# Altium integrated library TI_Logic_Flip-Flop,Latch,Register.IntLib: 2598 symbols (part 21 of 122)
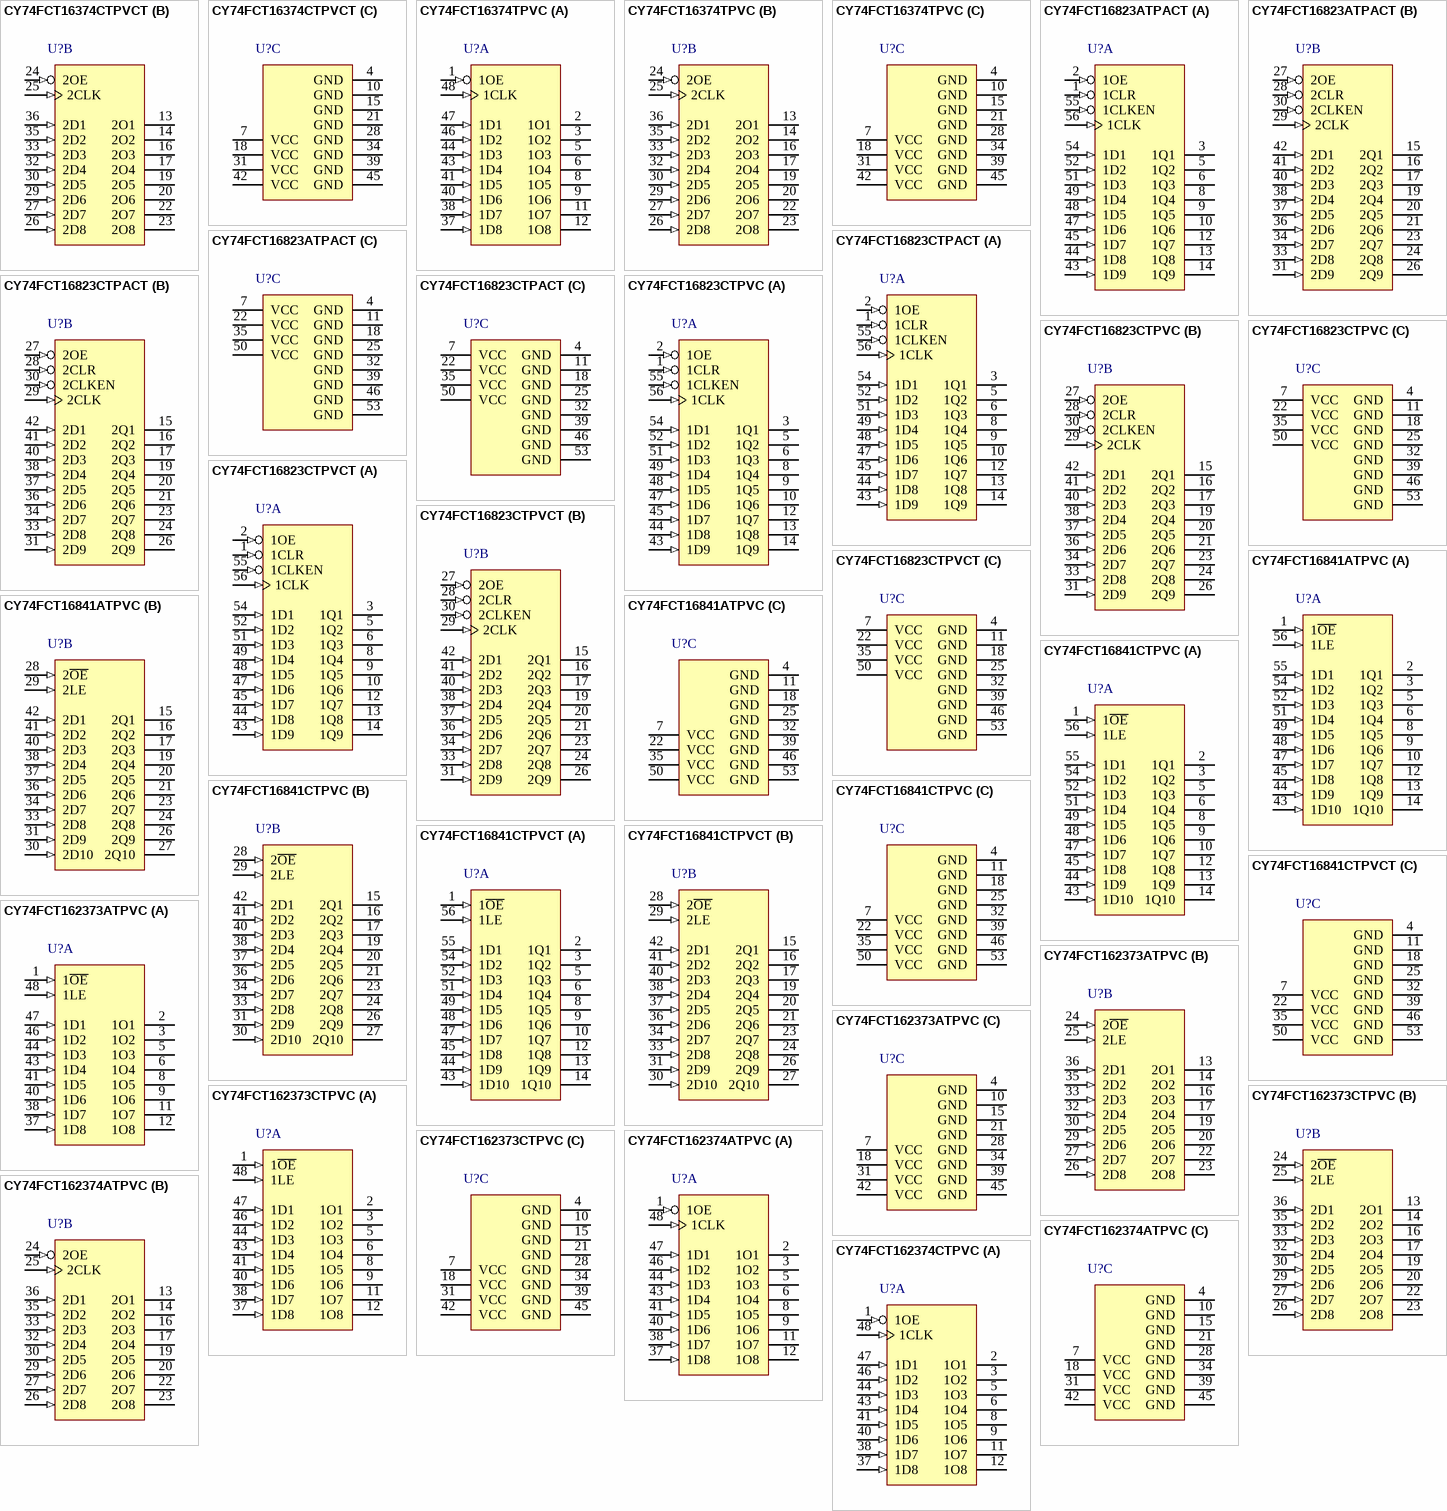
[diagram p159: symbols CY74FCT16374CTPVCT to CY74FCT162374CTPVC]

## CY74FCT16823CTPACT
designator U?
18-Bit D-Type Flip-Flops with 3-State Outputs, DGG0056A, LARGE T&R; Generic Part Number: CY74FCT16823T; Manufacturer: Texas Instruments; PartNumber: CY74FCT16823CTPACT; VCC(Min)(V): 4.5; VCC(Max)(V): 5.5; Output Type: CMOS; ICC @ Nom Voltage(Max)(mA): 0.5; Input Type: TTL; Bits(#): 18; F @ Nom Voltage(Max)(Mhz): 70; Rating: Catalog; Technology Family: FCT; Voltage(Nom)(V): 5; Schmitt Trigger: No; Output Drive (IOL/IOH)(Max)(mA): 64/-32; tpd @ Nom Voltage(Max)(ns): 12.5; DatasheetVersion: SCCS062B; PackageReference: DGG0056A; Supplier 1: Digi-Key; Supplier Part Number 1: CY74FCT16823CTPACT-ND; Supplier 2: Mouser; Supplier Part Number 2: 595-74FCT16823CTPACT; Operating Temperature Range(C): -40 to 85; Code_JEDEC: MO-153; ComponentLink1Description: Manufacturer URL; ComponentLink1URL: http://www.ti.com/; ComponentLink2Description: Datasheet; ComponentLink2URL: http://www.ti.com/lit/ds/symlink/cy74fct16823t.pdf; ComponentLink3Description: Package Specification; ComponentLink3URL: http://www.ti.com/lit/ml/mtss003d/mtss003d.pdf
footprint DGG0056A_N (TSSOP, 56-Leads, Body 14.1x6.2mm, Pitch 0.5mm, IPC Medium Density)
footprint DGG0056A_M (TSSOP, 56-Leads, Body 14.1x6.2mm, Pitch 0.5mm, IPC Low Density)
footprint DGG0056A_L (TSSOP, 56-Leads, Body 14.1x6.2mm, Pitch 0.5mm, IPC High Density)
part A pins: 1 1CLR (in) "Asynchronous Clear Inputs (Active LOW)", 2 1OE (in) "Output Enable Inputs (Active LOW)", 3 1Q1 (hiz) "Three-State Outputs", 5 1Q2 (hiz) "Three-State Outputs", 6 1Q3 (hiz) "Three-State Outputs", 8 1Q4 (hiz) "Three-State Outputs", 9 1Q5 (hiz) "Three-State Outputs", 10 1Q6 (hiz) "Three-State Outputs", 12 1Q7 (hiz) "Three-State Outputs", 13 1Q8 (hiz) "Three-State Outputs", 14 1Q9 (hiz) "Three-State Outputs", 43 1D9 (in) "Data Inputs", 44 1D8 (in) "Data Inputs", 45 1D7 (in) "Data Inputs", 47 1D6 (in) "Data Inputs", 48 1D5 (in) "Data Inputs", 49 1D4 (in) "Data Inputs", 51 1D3 (in) "Data Inputs", 52 1D2 (in) "Data Inputs", 54 1D1 (in) "Data Inputs", 55 1CLKEN (in) "Clock Enable Inputs (Active LOW)", 56 1CLK (in) "Clock Inputs"
part B pins: 15 2Q1 (hiz) "Three-State Outputs", 16 2Q2 (hiz) "Three-State Outputs", 17 2Q3 (hiz) "Three-State Outputs", 19 2Q4 (hiz) "Three-State Outputs", 20 2Q5 (hiz) "Three-State Outputs", 21 2Q6 (hiz) "Three-State Outputs", 23 2Q7 (hiz) "Three-State Outputs", 24 2Q8 (hiz) "Three-State Outputs", 26 2Q9 (hiz) "Three-State Outputs", 27 2OE (in) "Output Enable Inputs (Active LOW)", 28 2CLR (in) "Asynchronous Clear Inputs (Active LOW)", 29 2CLK (in) "Clock Inputs", 30 2CLKEN (in) "Clock Enable Inputs (Active LOW)", 31 2D9 (in) "Data Inputs", 33 2D8 (in) "Data Inputs", 34 2D7 (in) "Data Inputs", 36 2D6 (in) "Data Inputs", 37 2D5 (in) "Data Inputs", 38 2D4 (in) "Data Inputs", 40 2D3 (in) "Data Inputs", 41 2D2 (in) "Data Inputs", 42 2D1 (in) "Data Inputs"
part C pins: 4 GND (power), 7 VCC (power), 11 GND (power), 18 GND (power), 22 VCC (power), 25 GND (power), 32 GND (power), 35 VCC (power), 39 GND (power), 46 GND (power), 50 VCC (power), 53 GND (power)

## CY74FCT16823CTPVC
designator U?
18-Bit D-Type Flip-Flops with 3-State Outputs, DL0056A, TUBE; Generic Part Number: CY74FCT16823T; Manufacturer: Texas Instruments; PartNumber: CY74FCT16823CTPVC; VCC(Min)(V): 4.5; VCC(Max)(V): 5.5; Output Type: CMOS; ICC @ Nom Voltage(Max)(mA): 0.5; Input Type: TTL; Bits(#): 18; F @ Nom Voltage(Max)(Mhz): 70; Rating: Catalog; Technology Family: FCT; Voltage(Nom)(V): 5; Schmitt Trigger: No; Output Drive (IOL/IOH)(Max)(mA): 64/-32; tpd @ Nom Voltage(Max)(ns): 12.5; DatasheetVersion: SCCS062B; PackageReference: DL0056A; Supplier 1: Digi-Key; Supplier Part Number 1: 296-33206-5-ND; Supplier 2: Mouser; Supplier Part Number 2: 595-74FCT16823CTPVC; Operating Temperature Range(C): -40 to 85; Code_JEDEC: MO-118; ComponentLink1Description: Manufacturer URL; ComponentLink1URL: http://www.ti.com/; ComponentLink2Description: Datasheet; ComponentLink2URL: http://www.ti.com/lit/ds/symlink/cy74fct16823t.pdf; ComponentLink3Description: Package Specification; ComponentLink3URL: http://www.ti.com/lit/ml/mpds491/mpds491.pdf
footprint DL0056A_N (SOP, 56-Leads, Body 7.6x18.5mm, Pitch 0.635mm, IPC Medium Density)
footprint DL0056A_M (SOP, 56-Leads, Body 7.6x18.5mm, Pitch 0.635mm, IPC Low Density)
footprint DL0056A_L (SOP, 56-Leads, Body 7.6x18.5mm, Pitch 0.635mm, IPC High Density)
part A pins: 1 1CLR (in) "Asynchronous Clear Inputs (Active LOW)", 2 1OE (in) "Output Enable Inputs (Active LOW)", 3 1Q1 (hiz) "Three-State Outputs", 5 1Q2 (hiz) "Three-State Outputs", 6 1Q3 (hiz) "Three-State Outputs", 8 1Q4 (hiz) "Three-State Outputs", 9 1Q5 (hiz) "Three-State Outputs", 10 1Q6 (hiz) "Three-State Outputs", 12 1Q7 (hiz) "Three-State Outputs", 13 1Q8 (hiz) "Three-State Outputs", 14 1Q9 (hiz) "Three-State Outputs", 43 1D9 (in) "Data Inputs", 44 1D8 (in) "Data Inputs", 45 1D7 (in) "Data Inputs", 47 1D6 (in) "Data Inputs", 48 1D5 (in) "Data Inputs", 49 1D4 (in) "Data Inputs", 51 1D3 (in) "Data Inputs", 52 1D2 (in) "Data Inputs", 54 1D1 (in) "Data Inputs", 55 1CLKEN (in) "Clock Enable Inputs (Active LOW)", 56 1CLK (in) "Clock Inputs"
part B pins: 15 2Q1 (hiz) "Three-State Outputs", 16 2Q2 (hiz) "Three-State Outputs", 17 2Q3 (hiz) "Three-State Outputs", 19 2Q4 (hiz) "Three-State Outputs", 20 2Q5 (hiz) "Three-State Outputs", 21 2Q6 (hiz) "Three-State Outputs", 23 2Q7 (hiz) "Three-State Outputs", 24 2Q8 (hiz) "Three-State Outputs", 26 2Q9 (hiz) "Three-State Outputs", 27 2OE (in) "Output Enable Inputs (Active LOW)", 28 2CLR (in) "Asynchronous Clear Inputs (Active LOW)", 29 2CLK (in) "Clock Inputs", 30 2CLKEN (in) "Clock Enable Inputs (Active LOW)", 31 2D9 (in) "Data Inputs", 33 2D8 (in) "Data Inputs", 34 2D7 (in) "Data Inputs", 36 2D6 (in) "Data Inputs", 37 2D5 (in) "Data Inputs", 38 2D4 (in) "Data Inputs", 40 2D3 (in) "Data Inputs", 41 2D2 (in) "Data Inputs", 42 2D1 (in) "Data Inputs"
part C pins: 4 GND (power), 7 VCC (power), 11 GND (power), 18 GND (power), 22 VCC (power), 25 GND (power), 32 GND (power), 35 VCC (power), 39 GND (power), 46 GND (power), 50 VCC (power), 53 GND (power)

## CY74FCT16823CTPVCT
designator U?
18-Bit D-Type Flip-Flops with 3-State Outputs, DL0056A, LARGE T&R; Generic Part Number: CY74FCT16823T; Manufacturer: Texas Instruments; PartNumber: CY74FCT16823CTPVCT; VCC(Min)(V): 4.5; VCC(Max)(V): 5.5; Output Type: CMOS; ICC @ Nom Voltage(Max)(mA): 0.5; Input Type: TTL; Bits(#): 18; F @ Nom Voltage(Max)(Mhz): 70; Rating: Catalog; Technology Family: FCT; Voltage(Nom)(V): 5; Schmitt Trigger: No; Output Drive (IOL/IOH)(Max)(mA): 64/-32; tpd @ Nom Voltage(Max)(ns): 12.5; DatasheetVersion: SCCS062B; PackageReference: DL0056A; Supplier 1: Digi-Key; Supplier Part Number 1: 296-28860-2-ND; Supplier 2: Digi-Key; Supplier Part Number 2: 296-28860-1-ND; Supplier 3: Digi-Key; Supplier Part Number 3: 296-28860-6-ND; Supplier 4: Mouser; Supplier Part Number 4: 595-74FCT16823CTPVCT; Operating Temperature Range(C): -40 to 85; Code_JEDEC: MO-118; ComponentLink1Description: Manufacturer URL; ComponentLink1URL: http://www.ti.com/; ComponentLink2Description: Datasheet; ComponentLink2URL: http://www.ti.com/lit/ds/symlink/cy74fct16823t.pdf; ComponentLink3Description: Package Specification; ComponentLink3URL: http://www.ti.com/lit/ml/mpds491/mpds491.pdf
footprint DL0056A_N (SOP, 56-Leads, Body 7.6x18.5mm, Pitch 0.635mm, IPC Medium Density)
footprint DL0056A_M (SOP, 56-Leads, Body 7.6x18.5mm, Pitch 0.635mm, IPC Low Density)
footprint DL0056A_L (SOP, 56-Leads, Body 7.6x18.5mm, Pitch 0.635mm, IPC High Density)
part A pins: 1 1CLR (in) "Asynchronous Clear Inputs (Active LOW)", 2 1OE (in) "Output Enable Inputs (Active LOW)", 3 1Q1 (hiz) "Three-State Outputs", 5 1Q2 (hiz) "Three-State Outputs", 6 1Q3 (hiz) "Three-State Outputs", 8 1Q4 (hiz) "Three-State Outputs", 9 1Q5 (hiz) "Three-State Outputs", 10 1Q6 (hiz) "Three-State Outputs", 12 1Q7 (hiz) "Three-State Outputs", 13 1Q8 (hiz) "Three-State Outputs", 14 1Q9 (hiz) "Three-State Outputs", 43 1D9 (in) "Data Inputs", 44 1D8 (in) "Data Inputs", 45 1D7 (in) "Data Inputs", 47 1D6 (in) "Data Inputs", 48 1D5 (in) "Data Inputs", 49 1D4 (in) "Data Inputs", 51 1D3 (in) "Data Inputs", 52 1D2 (in) "Data Inputs", 54 1D1 (in) "Data Inputs", 55 1CLKEN (in) "Clock Enable Inputs (Active LOW)", 56 1CLK (in) "Clock Inputs"
part B pins: 15 2Q1 (hiz) "Three-State Outputs", 16 2Q2 (hiz) "Three-State Outputs", 17 2Q3 (hiz) "Three-State Outputs", 19 2Q4 (hiz) "Three-State Outputs", 20 2Q5 (hiz) "Three-State Outputs", 21 2Q6 (hiz) "Three-State Outputs", 23 2Q7 (hiz) "Three-State Outputs", 24 2Q8 (hiz) "Three-State Outputs", 26 2Q9 (hiz) "Three-State Outputs", 27 2OE (in) "Output Enable Inputs (Active LOW)", 28 2CLR (in) "Asynchronous Clear Inputs (Active LOW)", 29 2CLK (in) "Clock Inputs", 30 2CLKEN (in) "Clock Enable Inputs (Active LOW)", 31 2D9 (in) "Data Inputs", 33 2D8 (in) "Data Inputs", 34 2D7 (in) "Data Inputs", 36 2D6 (in) "Data Inputs", 37 2D5 (in) "Data Inputs", 38 2D4 (in) "Data Inputs", 40 2D3 (in) "Data Inputs", 41 2D2 (in) "Data Inputs", 42 2D1 (in) "Data Inputs"
part C pins: 4 GND (power), 7 VCC (power), 11 GND (power), 18 GND (power), 22 VCC (power), 25 GND (power), 32 GND (power), 35 VCC (power), 39 GND (power), 46 GND (power), 50 VCC (power), 53 GND (power)

## CY74FCT16841ATPVC
designator U?
20-Bit Bus Interface D-Type Latches with 3-State Outputs, DL0056A, TUBE; Generic Part Number: CY74FCT16841T; Manufacturer: Texas Instruments; PartNumber: CY74FCT16841ATPVC; VCC(Min)(V): 4.5; VCC(Max)(V): 5.5; Output Type: CMOS; ICC @ Nom Voltage(Max)(mA): 0.5; Input Type: TTL; Bits(#): 20; F @ Nom Voltage(Max)(Mhz): 70; Rating: Catalog; Technology Family: FCT; Voltage(Nom)(V): 5; Schmitt Trigger: No; Output Drive (IOL/IOH)(Max)(mA): 64/-32; tpd @ Nom Voltage(Max)(ns): 9; DatasheetVersion: SCCS067A; PackageReference: DL0056A; Supplier 1: Digi-Key; Supplier Part Number 1: 296-33208-5-ND; Supplier 2: Mouser; Supplier Part Number 2: 595-Y74FCT16841ATPVC; Operating Temperature Range(C): -40 to 85; Code_JEDEC: MO-118; ComponentLink1Description: Manufacturer URL; ComponentLink1URL: http://www.ti.com/; ComponentLink2Description: Datasheet; ComponentLink2URL: http://www.ti.com/lit/ds/symlink/cy74fct16841t.pdf; ComponentLink3Description: Package Specification; ComponentLink3URL: http://www.ti.com/lit/ml/mpds491/mpds491.pdf
footprint DL0056A_N (SOP, 56-Leads, Body 7.6x18.5mm, Pitch 0.635mm, IPC Medium Density)
footprint DL0056A_M (SOP, 56-Leads, Body 7.6x18.5mm, Pitch 0.635mm, IPC Low Density)
footprint DL0056A_L (SOP, 56-Leads, Body 7.6x18.5mm, Pitch 0.635mm, IPC High Density)
part A pins: 1 1~{OE} (in) "Output Enable Input (Active LOW)", 2 1Q1 (hiz) "Three-State Outputs", 3 1Q2 (hiz) "Three-State Outputs", 5 1Q3 (hiz) "Three-State Outputs", 6 1Q4 (hiz) "Three-State Outputs", 8 1Q5 (hiz) "Three-State Outputs", 9 1Q6 (hiz) "Three-State Outputs", 10 1Q7 (hiz) "Three-State Outputs", 12 1Q8 (hiz) "Three-State Outputs", 13 1Q9 (hiz) "Three-State Outputs", 14 1Q10 (hiz) "Three-State Outputs", 43 1D10 (in) "Data Inputs", 44 1D9 (in) "Data Inputs", 45 1D8 (in) "Data Inputs", 47 1D7 (in) "Data Inputs", 48 1D6 (in) "Data Inputs", 49 1D5 (in) "Data Inputs", 51 1D4 (in) "Data Inputs", 52 1D3 (in) "Data Inputs", 54 1D2 (in) "Data Inputs", 55 1D1 (in) "Data Inputs", 56 1LE (in) "Latch Enable Input (Active HIGH)"
part B pins: 15 2Q1 (hiz) "Three-State Outputs", 16 2Q2 (hiz) "Three-State Outputs", 17 2Q3 (hiz) "Three-State Outputs", 19 2Q4 (hiz) "Three-State Outputs", 20 2Q5 (hiz) "Three-State Outputs", 21 2Q6 (hiz) "Three-State Outputs", 23 2Q7 (hiz) "Three-State Outputs", 24 2Q8 (hiz) "Three-State Outputs", 26 2Q9 (hiz) "Three-State Outputs", 27 2Q10 (hiz) "Three-State Outputs", 28 2~{OE} (in) "Output Enable Input (Active LOW)", 29 2LE (in) "Latch Enable Input (Active HIGH)", 30 2D10 (in) "Data Inputs", 31 2D9 (in) "Data Inputs", 33 2D8 (in) "Data Inputs", 34 2D7 (in) "Data Inputs", 36 2D6 (in) "Data Inputs", 37 2D5 (in) "Data Inputs", 38 2D4 (in) "Data Inputs", 40 2D3 (in) "Data Inputs", 41 2D2 (in) "Data Inputs", 42 2D1 (in) "Data Inputs"
part C pins: 4 GND (power), 7 VCC (power), 11 GND (power), 18 GND (power), 22 VCC (power), 25 GND (power), 32 GND (power), 35 VCC (power), 39 GND (power), 46 GND (power), 50 VCC (power), 53 GND (power)

## CY74FCT16841CTPVC
designator U?
20-Bit Bus Interface D-Type Latches with 3-State Outputs, DL0056A, TUBE; Generic Part Number: CY74FCT16841T; Manufacturer: Texas Instruments; PartNumber: CY74FCT16841CTPVC; VCC(Min)(V): 4.5; VCC(Max)(V): 5.5; Output Type: CMOS; ICC @ Nom Voltage(Max)(mA): 0.5; Input Type: TTL; Bits(#): 20; F @ Nom Voltage(Max)(Mhz): 70; Rating: Catalog; Technology Family: FCT; Voltage(Nom)(V): 5; Schmitt Trigger: No; Output Drive (IOL/IOH)(Max)(mA): 64/-32; DatasheetVersion: SCCS067A; PackageReference: DL0056A; Supplier 1: Digi-Key; Supplier Part Number 1: CY74FCT16841CTPVC-ND; Supplier 2: Mouser; Supplier Part Number 2: 595-Y74FCT16841CTPVC; Operating Temperature Range(C): -40 to 85; tpd @ Nom Voltage(Max)(ns): 5.5; Code_JEDEC: MO-118; ComponentLink1Description: Manufacturer URL; ComponentLink1URL: http://www.ti.com/; ComponentLink2Description: Datasheet; ComponentLink2URL: http://www.ti.com/lit/ds/symlink/cy74fct16841t.pdf; ComponentLink3Description: Package Specification; ComponentLink3URL: http://www.ti.com/lit/ml/mpds491/mpds491.pdf
footprint DL0056A_N (SOP, 56-Leads, Body 7.6x18.5mm, Pitch 0.635mm, IPC Medium Density)
footprint DL0056A_M (SOP, 56-Leads, Body 7.6x18.5mm, Pitch 0.635mm, IPC Low Density)
footprint DL0056A_L (SOP, 56-Leads, Body 7.6x18.5mm, Pitch 0.635mm, IPC High Density)
part A pins: 1 1~{OE} (in) "Output Enable Input (Active LOW)", 2 1Q1 (hiz) "Three-State Outputs", 3 1Q2 (hiz) "Three-State Outputs", 5 1Q3 (hiz) "Three-State Outputs", 6 1Q4 (hiz) "Three-State Outputs", 8 1Q5 (hiz) "Three-State Outputs", 9 1Q6 (hiz) "Three-State Outputs", 10 1Q7 (hiz) "Three-State Outputs", 12 1Q8 (hiz) "Three-State Outputs", 13 1Q9 (hiz) "Three-State Outputs", 14 1Q10 (hiz) "Three-State Outputs", 43 1D10 (in) "Data Inputs", 44 1D9 (in) "Data Inputs", 45 1D8 (in) "Data Inputs", 47 1D7 (in) "Data Inputs", 48 1D6 (in) "Data Inputs", 49 1D5 (in) "Data Inputs", 51 1D4 (in) "Data Inputs", 52 1D3 (in) "Data Inputs", 54 1D2 (in) "Data Inputs", 55 1D1 (in) "Data Inputs", 56 1LE (in) "Latch Enable Input (Active HIGH)"
part B pins: 15 2Q1 (hiz) "Three-State Outputs", 16 2Q2 (hiz) "Three-State Outputs", 17 2Q3 (hiz) "Three-State Outputs", 19 2Q4 (hiz) "Three-State Outputs", 20 2Q5 (hiz) "Three-State Outputs", 21 2Q6 (hiz) "Three-State Outputs", 23 2Q7 (hiz) "Three-State Outputs", 24 2Q8 (hiz) "Three-State Outputs", 26 2Q9 (hiz) "Three-State Outputs", 27 2Q10 (hiz) "Three-State Outputs", 28 2~{OE} (in) "Output Enable Input (Active LOW)", 29 2LE (in) "Latch Enable Input (Active HIGH)", 30 2D10 (in) "Data Inputs", 31 2D9 (in) "Data Inputs", 33 2D8 (in) "Data Inputs", 34 2D7 (in) "Data Inputs", 36 2D6 (in) "Data Inputs", 37 2D5 (in) "Data Inputs", 38 2D4 (in) "Data Inputs", 40 2D3 (in) "Data Inputs", 41 2D2 (in) "Data Inputs", 42 2D1 (in) "Data Inputs"
part C pins: 4 GND (power), 7 VCC (power), 11 GND (power), 18 GND (power), 22 VCC (power), 25 GND (power), 32 GND (power), 35 VCC (power), 39 GND (power), 46 GND (power), 50 VCC (power), 53 GND (power)

## CY74FCT16841CTPVCT
designator U?
20-Bit Bus Interface D-Type Latches with 3-State Outputs, DL0056A, LARGE T&R; Generic Part Number: CY74FCT16841T; Manufacturer: Texas Instruments; PartNumber: CY74FCT16841CTPVCT; VCC(Min)(V): 4.5; VCC(Max)(V): 5.5; Output Type: CMOS; ICC @ Nom Voltage(Max)(mA): 0.5; Input Type: TTL; Bits(#): 20; F @ Nom Voltage(Max)(Mhz): 70; Rating: Catalog; Technology Family: FCT; Voltage(Nom)(V): 5; Schmitt Trigger: No; Output Drive (IOL/IOH)(Max)(mA): 64/-32; DatasheetVersion: SCCS067A; PackageReference: DL0056A; Supplier 1: Digi-Key; Supplier Part Number 1: CY74FCT16841CTPVCT-ND; Supplier 2: Mouser; Supplier Part Number 2: 595-74FCT16841CTPVCT; Operating Temperature Range(C): -40 to 85; tpd @ Nom Voltage(Max)(ns): 5.5; Code_JEDEC: MO-118; ComponentLink1Description: Manufacturer URL; ComponentLink1URL: http://www.ti.com/; ComponentLink2Description: Datasheet; ComponentLink2URL: http://www.ti.com/lit/ds/symlink/cy74fct16841t.pdf; ComponentLink3Description: Package Specification; ComponentLink3URL: http://www.ti.com/lit/ml/mpds491/mpds491.pdf
footprint DL0056A_N (SOP, 56-Leads, Body 7.6x18.5mm, Pitch 0.635mm, IPC Medium Density)
footprint DL0056A_M (SOP, 56-Leads, Body 7.6x18.5mm, Pitch 0.635mm, IPC Low Density)
footprint DL0056A_L (SOP, 56-Leads, Body 7.6x18.5mm, Pitch 0.635mm, IPC High Density)
part A pins: 1 1~{OE} (in) "Output Enable Input (Active LOW)", 2 1Q1 (hiz) "Three-State Outputs", 3 1Q2 (hiz) "Three-State Outputs", 5 1Q3 (hiz) "Three-State Outputs", 6 1Q4 (hiz) "Three-State Outputs", 8 1Q5 (hiz) "Three-State Outputs", 9 1Q6 (hiz) "Three-State Outputs", 10 1Q7 (hiz) "Three-State Outputs", 12 1Q8 (hiz) "Three-State Outputs", 13 1Q9 (hiz) "Three-State Outputs", 14 1Q10 (hiz) "Three-State Outputs", 43 1D10 (in) "Data Inputs", 44 1D9 (in) "Data Inputs", 45 1D8 (in) "Data Inputs", 47 1D7 (in) "Data Inputs", 48 1D6 (in) "Data Inputs", 49 1D5 (in) "Data Inputs", 51 1D4 (in) "Data Inputs", 52 1D3 (in) "Data Inputs", 54 1D2 (in) "Data Inputs", 55 1D1 (in) "Data Inputs", 56 1LE (in) "Latch Enable Input (Active HIGH)"
part B pins: 15 2Q1 (hiz) "Three-State Outputs", 16 2Q2 (hiz) "Three-State Outputs", 17 2Q3 (hiz) "Three-State Outputs", 19 2Q4 (hiz) "Three-State Outputs", 20 2Q5 (hiz) "Three-State Outputs", 21 2Q6 (hiz) "Three-State Outputs", 23 2Q7 (hiz) "Three-State Outputs", 24 2Q8 (hiz) "Three-State Outputs", 26 2Q9 (hiz) "Three-State Outputs", 27 2Q10 (hiz) "Three-State Outputs", 28 2~{OE} (in) "Output Enable Input (Active LOW)", 29 2LE (in) "Latch Enable Input (Active HIGH)", 30 2D10 (in) "Data Inputs", 31 2D9 (in) "Data Inputs", 33 2D8 (in) "Data Inputs", 34 2D7 (in) "Data Inputs", 36 2D6 (in) "Data Inputs", 37 2D5 (in) "Data Inputs", 38 2D4 (in) "Data Inputs", 40 2D3 (in) "Data Inputs", 41 2D2 (in) "Data Inputs", 42 2D1 (in) "Data Inputs"
part C pins: 4 GND (power), 7 VCC (power), 11 GND (power), 18 GND (power), 22 VCC (power), 25 GND (power), 32 GND (power), 35 VCC (power), 39 GND (power), 46 GND (power), 50 VCC (power), 53 GND (power)

## CY74FCT162373ATPVC
designator U?
16-Bit Transparent D-Type Latches with 3-State Outputs, DL0048A, TUBE; Generic Part Number: CY74FCT162373T; Manufacturer: Texas Instruments; PartNumber: CY74FCT162373ATPVC; VCC(Min)(V): 4.5; VCC(Max)(V): 5.5; Output Type: CMOS; ICC @ Nom Voltage(Max)(mA): 0.5; Input Type: TTL; Bits(#): 16; F @ Nom Voltage(Max)(Mhz): 70; Rating: Catalog; Technology Family: FCT; Voltage(Nom)(V): 5; Schmitt Trigger: No; Output Drive (IOL/IOH)(Max)(mA): 24/-24; tpd @ Nom Voltage(Max)(ns): 5.2; DatasheetVersion: SCCS054C; PackageReference: DL0048A; Supplier 1: Digi-Key; Supplier Part Number 1: 296-33184-5-ND; Supplier 2: Farnell; Supplier Part Number 2: 1741588; Supplier 3: Newark; Supplier Part Number 3: 74C8766; Supplier 4: Mouser; Supplier Part Number 4: 595-74FCT162373ATPVC; Operating Temperature Range(C): -40 to 85; Code_JEDEC: MO-118; ComponentLink1Description: Manufacturer URL; ComponentLink1URL: http://www.ti.com/; ComponentLink2Description: Datasheet; ComponentLink2URL: http://www.ti.com/lit/ds/symlink/cy74fct162373t.pdf; ComponentLink3Description: Package Specification; ComponentLink3URL: http://www.ti.com/lit/ml/mpds490/mpds490.pdf
footprint DL0048A_N (SOP, 48-Leads, Body 7.6x16mm, Pitch 0.635mm, IPC Medium Density)
footprint DL0048A_M (SOP, 48-Leads, Body 7.6x16mm, Pitch 0.635mm, IPC Low Density)
footprint DL0048A_L (SOP, 48-Leads, Body 7.6x16mm, Pitch 0.635mm, IPC High Density)
part A pins: 1 1~{OE} (in) "Output Enable Inputs (Active LOW)", 2 1O1 (hiz) "Three-State Outputs", 3 1O2 (hiz) "Three-State Outputs", 5 1O3 (hiz) "Three-State Outputs", 6 1O4 (hiz) "Three-State Outputs", 8 1O5 (hiz) "Three-State Outputs", 9 1O6 (hiz) "Three-State Outputs", 11 1O7 (hiz) "Three-State Outputs", 12 1O8 (hiz) "Three-State Outputs", 37 1D8 (in) "Data Inputs", 38 1D7 (in) "Data Inputs", 40 1D6 (in) "Data Inputs", 41 1D5 (in) "Data Inputs", 43 1D4 (in) "Data Inputs", 44 1D3 (in) "Data Inputs", 46 1D2 (in) "Data Inputs", 47 1D1 (in) "Data Inputs", 48 1LE (in) "Latch Enable Inputs (Active HIGH)"
part B pins: 13 2O1 (hiz) "Three-State Outputs", 14 2O2 (hiz) "Three-State Outputs", 16 2O3 (hiz) "Three-State Outputs", 17 2O4 (hiz) "Three-State Outputs", 19 2O5 (hiz) "Three-State Outputs", 20 2O6 (hiz) "Three-State Outputs", 22 2O7 (hiz) "Three-State Outputs", 23 2O8 (hiz) "Three-State Outputs", 24 2~{OE} (in) "Output Enable Inputs (Active LOW)", 25 2LE (in) "Latch Enable Inputs (Active HIGH)", 26 2D8 (in) "Data Inputs", 27 2D7 (in) "Data Inputs", 29 2D6 (in) "Data Inputs", 30 2D5 (in) "Data Inputs", 32 2D4 (in) "Data Inputs", 33 2D3 (in) "Data Inputs", 35 2D2 (in) "Data Inputs", 36 2D1 (in) "Data Inputs"
part C pins: 4 GND (power), 7 VCC (power), 10 GND (power), 15 GND (power), 18 VCC (power), 21 GND (power), 28 GND (power), 31 VCC (power), 34 GND (power), 39 GND (power), 42 VCC (power), 45 GND (power)

## CY74FCT162373CTPVC
designator U?
16-Bit Transparent D-Type Latches with 3-State Outputs, DL0048A, TUBE; Generic Part Number: CY74FCT162373T; Manufacturer: Texas Instruments; PartNumber: CY74FCT162373CTPVC; VCC(Min)(V): 4.5; VCC(Max)(V): 5.5; Output Type: CMOS; ICC @ Nom Voltage(Max)(mA): 0.5; Input Type: TTL; Bits(#): 16; F @ Nom Voltage(Max)(Mhz): 70; Rating: Catalog; Technology Family: FCT; Voltage(Nom)(V): 5; Schmitt Trigger: No; Output Drive (IOL/IOH)(Max)(mA): 24/-24; tpd @ Nom Voltage(Max)(ns): 4.2; DatasheetVersion: SCCS054C; PackageReference: DL0048A; Supplier 1: Digi-Key; Supplier Part Number 1: 296-33185-5-ND; Supplier 2: Farnell; Supplier Part Number 2: 1741589; Supplier 3: Mouser; Supplier Part Number 3: 595-74FCT162373CTPVC; Operating Temperature Range(C): -40 to 85; Code_JEDEC: MO-118; ComponentLink1Description: Manufacturer URL; ComponentLink1URL: http://www.ti.com/; ComponentLink2Description: Datasheet; ComponentLink2URL: http://www.ti.com/lit/ds/symlink/cy74fct162373t.pdf; ComponentLink3Description: Package Specification; ComponentLink3URL: http://www.ti.com/lit/ml/mpds490/mpds490.pdf
footprint DL0048A_N (SOP, 48-Leads, Body 7.6x16mm, Pitch 0.635mm, IPC Medium Density)
footprint DL0048A_M (SOP, 48-Leads, Body 7.6x16mm, Pitch 0.635mm, IPC Low Density)
footprint DL0048A_L (SOP, 48-Leads, Body 7.6x16mm, Pitch 0.635mm, IPC High Density)
part A pins: 1 1~{OE} (in) "Output Enable Inputs (Active LOW)", 2 1O1 (hiz) "Three-State Outputs", 3 1O2 (hiz) "Three-State Outputs", 5 1O3 (hiz) "Three-State Outputs", 6 1O4 (hiz) "Three-State Outputs", 8 1O5 (hiz) "Three-State Outputs", 9 1O6 (hiz) "Three-State Outputs", 11 1O7 (hiz) "Three-State Outputs", 12 1O8 (hiz) "Three-State Outputs", 37 1D8 (in) "Data Inputs", 38 1D7 (in) "Data Inputs", 40 1D6 (in) "Data Inputs", 41 1D5 (in) "Data Inputs", 43 1D4 (in) "Data Inputs", 44 1D3 (in) "Data Inputs", 46 1D2 (in) "Data Inputs", 47 1D1 (in) "Data Inputs", 48 1LE (in) "Latch Enable Inputs (Active HIGH)"
part B pins: 13 2O1 (hiz) "Three-State Outputs", 14 2O2 (hiz) "Three-State Outputs", 16 2O3 (hiz) "Three-State Outputs", 17 2O4 (hiz) "Three-State Outputs", 19 2O5 (hiz) "Three-State Outputs", 20 2O6 (hiz) "Three-State Outputs", 22 2O7 (hiz) "Three-State Outputs", 23 2O8 (hiz) "Three-State Outputs", 24 2~{OE} (in) "Output Enable Inputs (Active LOW)", 25 2LE (in) "Latch Enable Inputs (Active HIGH)", 26 2D8 (in) "Data Inputs", 27 2D7 (in) "Data Inputs", 29 2D6 (in) "Data Inputs", 30 2D5 (in) "Data Inputs", 32 2D4 (in) "Data Inputs", 33 2D3 (in) "Data Inputs", 35 2D2 (in) "Data Inputs", 36 2D1 (in) "Data Inputs"
part C pins: 4 GND (power), 7 VCC (power), 10 GND (power), 15 GND (power), 18 VCC (power), 21 GND (power), 28 GND (power), 31 VCC (power), 34 GND (power), 39 GND (power), 42 VCC (power), 45 GND (power)

## CY74FCT162374ATPVC
designator U?
16-Bit Edge-Triggered D-Type Flip-Flops with 3-State Output, DL0048A, TUBE; Generic Part Number: CY74FCT162374T; Manufacturer: Texas Instruments; PartNumber: CY74FCT162374ATPVC; VCC(Min)(V): 4.5; VCC(Max)(V): 5.5; Output Type: CMOS; ICC @ Nom Voltage(Max)(mA): 0.5; Input Type: TTL; Bits(#): 16; F @ Nom Voltage(Max)(Mhz): 70; Rating: Catalog; Technology Family: FCT; Voltage(Nom)(V): 5; Schmitt Trigger: No; Output Drive (IOL/IOH)(Max)(mA): 24/-24; tpd @ Nom Voltage(Max)(ns): 6.5; DatasheetVersion: SCCS055C; PackageReference: DL0048A; Supplier 1: Digi-Key; Supplier Part Number 1: 296-33186-5-ND; Supplier 2: Farnell; Supplier Part Number 2: 1741085; Supplier 3: Mouser; Supplier Part Number 3: 595-CYFCT162374ATPVC; Operating Temperature Range(C): -40 to 85; Code_JEDEC: MO-118; ComponentLink1Description: Manufacturer URL; ComponentLink1URL: http://www.ti.com/; ComponentLink2Description: Datasheet; ComponentLink2URL: http://www.ti.com/lit/ds/symlink/cy74fct162374t.pdf; ComponentLink3Description: Package Specification; ComponentLink3URL: http://www.ti.com/lit/ml/mpds490/mpds490.pdf
footprint DL0048A_N (SOP, 48-Leads, Body 7.6x16mm, Pitch 0.635mm, IPC Medium Density)
footprint DL0048A_M (SOP, 48-Leads, Body 7.6x16mm, Pitch 0.635mm, IPC Low Density)
footprint DL0048A_L (SOP, 48-Leads, Body 7.6x16mm, Pitch 0.635mm, IPC High Density)
part A pins: 1 1OE (in) "Three-State Output Enable Inputs (Active LOW)", 2 1O1 (hiz) "Three-State Outputs", 3 1O2 (hiz) "Three-State Outputs", 5 1O3 (hiz) "Three-State Outputs", 6 1O4 (hiz) "Three-State Outputs", 8 1O5 (hiz) "Three-State Outputs", 9 1O6 (hiz) "Three-State Outputs", 11 1O7 (hiz) "Three-State Outputs", 12 1O8 (hiz) "Three-State Outputs", 37 1D8 (in) "Data Inputs", 38 1D7 (in) "Data Inputs", 40 1D6 (in) "Data Inputs", 41 1D5 (in) "Data Inputs", 43 1D4 (in) "Data Inputs", 44 1D3 (in) "Data Inputs", 46 1D2 (in) "Data Inputs", 47 1D1 (in) "Data Inputs", 48 1CLK (in) "Clock Inputs"
part B pins: 13 2O1 (hiz) "Three-State Outputs", 14 2O2 (hiz) "Three-State Outputs", 16 2O3 (hiz) "Three-State Outputs", 17 2O4 (hiz) "Three-State Outputs", 19 2O5 (hiz) "Three-State Outputs", 20 2O6 (hiz) "Three-State Outputs", 22 2O7 (hiz) "Three-State Outputs", 23 2O8 (hiz) "Three-State Outputs", 24 2OE (in) "Three-State Output Enable Inputs (Active LOW)", 25 2CLK (in) "Clock Inputs", 26 2D8 (in) "Data Inputs", 27 2D7 (in) "Data Inputs", 29 2D6 (in) "Data Inputs", 30 2D5 (in) "Data Inputs", 32 2D4 (in) "Data Inputs", 33 2D3 (in) "Data Inputs", 35 2D2 (in) "Data Inputs", 36 2D1 (in) "Data Inputs"
part C pins: 4 GND (power), 7 VCC (power), 10 GND (power), 15 GND (power), 18 VCC (power), 21 GND (power), 28 GND (power), 31 VCC (power), 34 GND (power), 39 GND (power), 42 VCC (power), 45 GND (power)

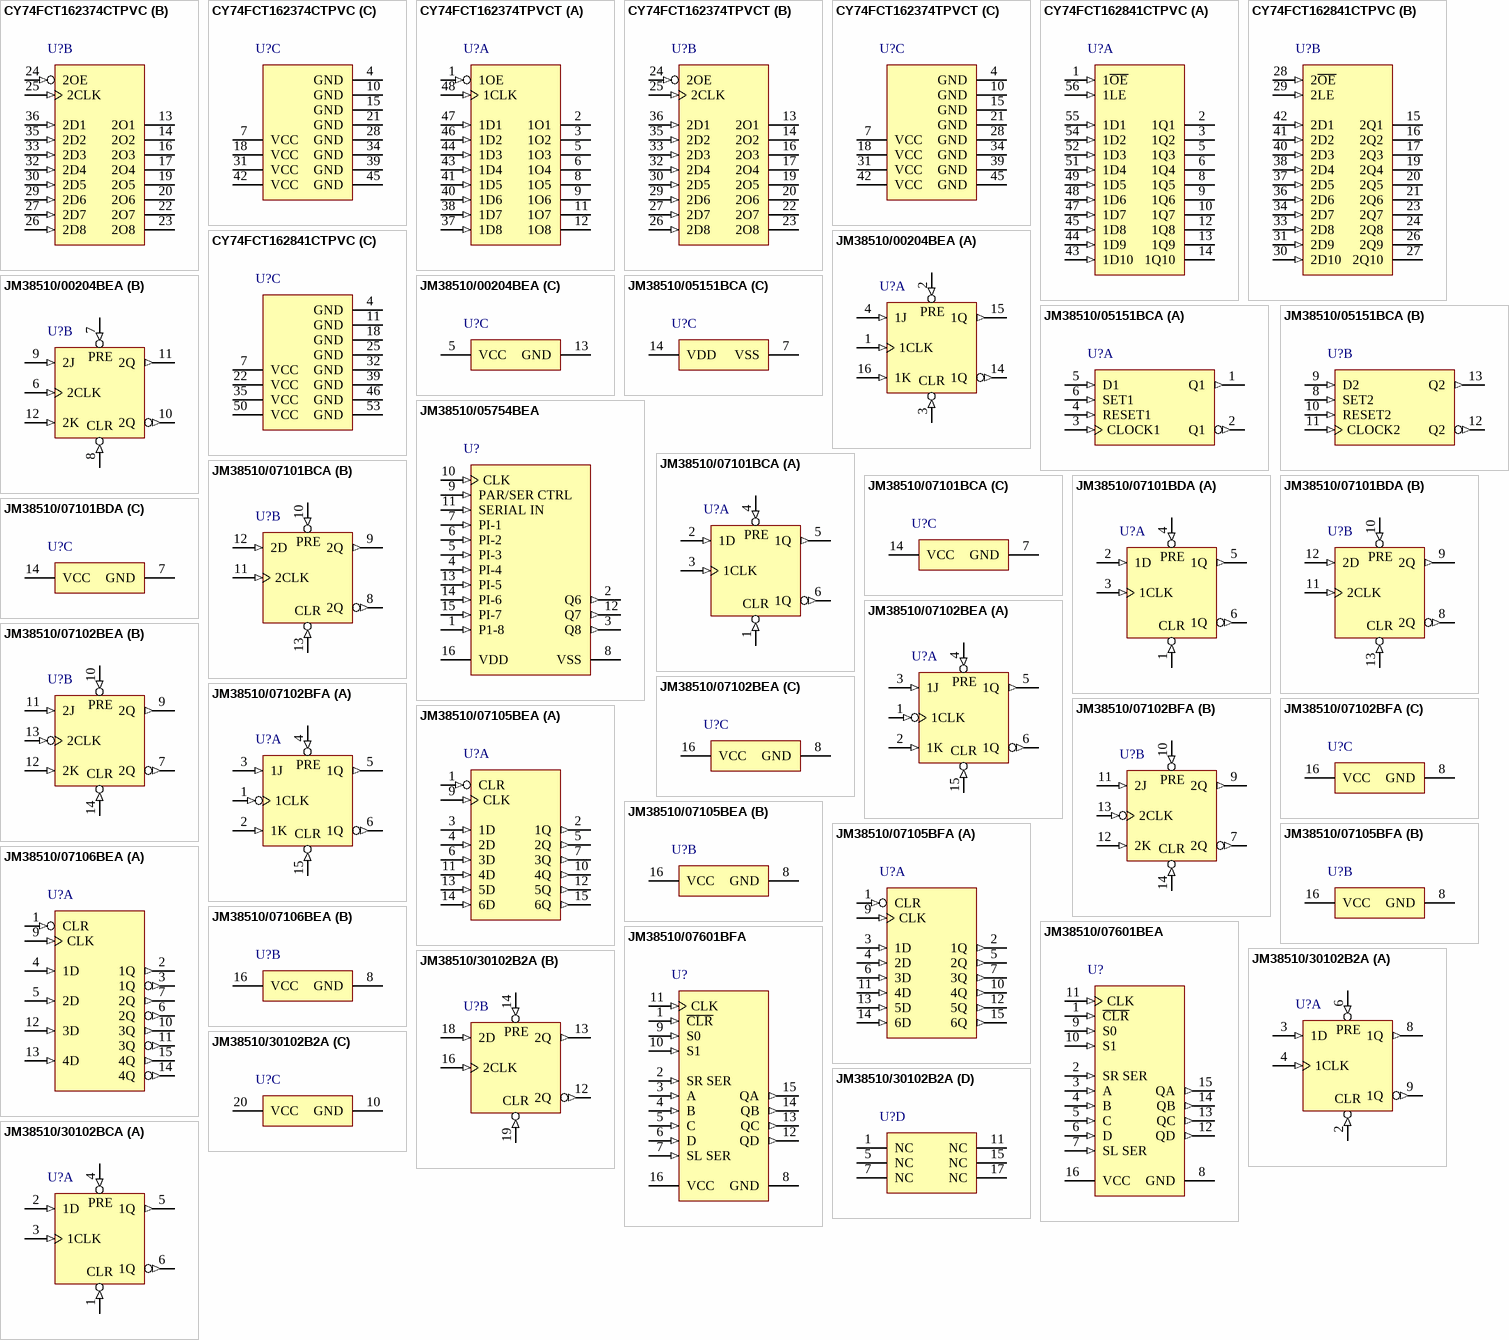
[diagram p29: symbols CY74FCT162374CTPVC to JM38510/30102BCA]

## CY74FCT162374CTPVC
designator U?
16-Bit Edge-Triggered D-Type Flip-Flops with 3-State Output, DL0048A, TUBE; Generic Part Number: CY74FCT162374T; Manufacturer: Texas Instruments; PartNumber: CY74FCT162374CTPVC; VCC(Min)(V): 4.5; VCC(Max)(V): 5.5; Output Type: CMOS; ICC @ Nom Voltage(Max)(mA): 0.5; Input Type: TTL; Bits(#): 16; F @ Nom Voltage(Max)(Mhz): 70; Rating: Catalog; Technology Family: FCT; Voltage(Nom)(V): 5; Schmitt Trigger: No; Output Drive (IOL/IOH)(Max)(mA): 24/-24; tpd @ Nom Voltage(Max)(ns): 5.2; DatasheetVersion: SCCS055C; PackageReference: DL0048A; Supplier 1: Digi-Key; Supplier Part Number 1: CY74FCT162374CTPVC-ND; Supplier 2: Mouser; Supplier Part Number 2: 595-CY74FCT162374CVC; Operating Temperature Range(C): -40 to 85; Code_JEDEC: MO-118; ComponentLink1Description: Manufacturer URL; ComponentLink1URL: http://www.ti.com/; ComponentLink2Description: Datasheet; ComponentLink2URL: http://www.ti.com/lit/ds/symlink/cy74fct162374t.pdf; ComponentLink3Description: Package Specification; ComponentLink3URL: http://www.ti.com/lit/ml/mpds490/mpds490.pdf
footprint DL0048A_N (SOP, 48-Leads, Body 7.6x16mm, Pitch 0.635mm, IPC Medium Density)
footprint DL0048A_M (SOP, 48-Leads, Body 7.6x16mm, Pitch 0.635mm, IPC Low Density)
footprint DL0048A_L (SOP, 48-Leads, Body 7.6x16mm, Pitch 0.635mm, IPC High Density)
part A pins: 1 1OE (in) "Three-State Output Enable Inputs (Active LOW)", 2 1O1 (hiz) "Three-State Outputs", 3 1O2 (hiz) "Three-State Outputs", 5 1O3 (hiz) "Three-State Outputs", 6 1O4 (hiz) "Three-State Outputs", 8 1O5 (hiz) "Three-State Outputs", 9 1O6 (hiz) "Three-State Outputs", 11 1O7 (hiz) "Three-State Outputs", 12 1O8 (hiz) "Three-State Outputs", 37 1D8 (in) "Data Inputs", 38 1D7 (in) "Data Inputs", 40 1D6 (in) "Data Inputs", 41 1D5 (in) "Data Inputs", 43 1D4 (in) "Data Inputs", 44 1D3 (in) "Data Inputs", 46 1D2 (in) "Data Inputs", 47 1D1 (in) "Data Inputs", 48 1CLK (in) "Clock Inputs"
part B pins: 13 2O1 (hiz) "Three-State Outputs", 14 2O2 (hiz) "Three-State Outputs", 16 2O3 (hiz) "Three-State Outputs", 17 2O4 (hiz) "Three-State Outputs", 19 2O5 (hiz) "Three-State Outputs", 20 2O6 (hiz) "Three-State Outputs", 22 2O7 (hiz) "Three-State Outputs", 23 2O8 (hiz) "Three-State Outputs", 24 2OE (in) "Three-State Output Enable Inputs (Active LOW)", 25 2CLK (in) "Clock Inputs", 26 2D8 (in) "Data Inputs", 27 2D7 (in) "Data Inputs", 29 2D6 (in) "Data Inputs", 30 2D5 (in) "Data Inputs", 32 2D4 (in) "Data Inputs", 33 2D3 (in) "Data Inputs", 35 2D2 (in) "Data Inputs", 36 2D1 (in) "Data Inputs"
part C pins: 4 GND (power), 7 VCC (power), 10 GND (power), 15 GND (power), 18 VCC (power), 21 GND (power), 28 GND (power), 31 VCC (power), 34 GND (power), 39 GND (power), 42 VCC (power), 45 GND (power)

## CY74FCT162374TPVCT
designator U?
16-Bit Edge-Triggered D-Type Flip-Flops with 3-State Output, DL0048A, LARGE T&R; Generic Part Number: CY74FCT162374T; Manufacturer: Texas Instruments; PartNumber: CY74FCT162374TPVCT; VCC(Min)(V): 4.5; VCC(Max)(V): 5.5; Output Type: CMOS; ICC @ Nom Voltage(Max)(mA): 0.5; Input Type: TTL; Bits(#): 16; F @ Nom Voltage(Max)(Mhz): 70; Rating: Catalog; Technology Family: FCT; Voltage(Nom)(V): 5; Schmitt Trigger: No; Output Drive (IOL/IOH)(Max)(mA): 24/-24; Output Logic: Non-inverted; 3-State Output: Yes; tpd @ Nom Voltage(Max)(ns): 10; DatasheetVersion: SCCS055C; PackageReference: DL0048A; Supplier 1: Digi-Key; Supplier Part Number 1: 296-31626-2-ND; Supplier 2: Digi-Key; Supplier Part Number 2: 296-31626-1-ND; Supplier 3: Digi-Key; Supplier Part Number 3: 296-31626-6-ND; Supplier 4: Mouser; Supplier Part Number 4: 595-CY74FCT162374TCT; Operating Temperature Range(C): -40 to 85; Code_JEDEC: MO-118; ComponentLink1Description: Manufacturer URL; ComponentLink1URL: http://www.ti.com/; ComponentLink2Description: Datasheet; ComponentLink2URL: http://www.ti.com/lit/ds/symlink/cy74fct162374t.pdf; ComponentLink3Description: Package Specification; ComponentLink3URL: http://www.ti.com/lit/ml/mpds490/mpds490.pdf
footprint DL0048A_N (SOP, 48-Leads, Body 7.6x16mm, Pitch 0.635mm, IPC Medium Density)
footprint DL0048A_M (SOP, 48-Leads, Body 7.6x16mm, Pitch 0.635mm, IPC Low Density)
footprint DL0048A_L (SOP, 48-Leads, Body 7.6x16mm, Pitch 0.635mm, IPC High Density)
part A pins: 1 1OE (in) "Three-State Output Enable Inputs (Active LOW)", 2 1O1 (hiz) "Three-State Outputs", 3 1O2 (hiz) "Three-State Outputs", 5 1O3 (hiz) "Three-State Outputs", 6 1O4 (hiz) "Three-State Outputs", 8 1O5 (hiz) "Three-State Outputs", 9 1O6 (hiz) "Three-State Outputs", 11 1O7 (hiz) "Three-State Outputs", 12 1O8 (hiz) "Three-State Outputs", 37 1D8 (in) "Data Inputs", 38 1D7 (in) "Data Inputs", 40 1D6 (in) "Data Inputs", 41 1D5 (in) "Data Inputs", 43 1D4 (in) "Data Inputs", 44 1D3 (in) "Data Inputs", 46 1D2 (in) "Data Inputs", 47 1D1 (in) "Data Inputs", 48 1CLK (in) "Clock Inputs"
part B pins: 13 2O1 (hiz) "Three-State Outputs", 14 2O2 (hiz) "Three-State Outputs", 16 2O3 (hiz) "Three-State Outputs", 17 2O4 (hiz) "Three-State Outputs", 19 2O5 (hiz) "Three-State Outputs", 20 2O6 (hiz) "Three-State Outputs", 22 2O7 (hiz) "Three-State Outputs", 23 2O8 (hiz) "Three-State Outputs", 24 2OE (in) "Three-State Output Enable Inputs (Active LOW)", 25 2CLK (in) "Clock Inputs", 26 2D8 (in) "Data Inputs", 27 2D7 (in) "Data Inputs", 29 2D6 (in) "Data Inputs", 30 2D5 (in) "Data Inputs", 32 2D4 (in) "Data Inputs", 33 2D3 (in) "Data Inputs", 35 2D2 (in) "Data Inputs", 36 2D1 (in) "Data Inputs"
part C pins: 4 GND (power), 7 VCC (power), 10 GND (power), 15 GND (power), 18 VCC (power), 21 GND (power), 28 GND (power), 31 VCC (power), 34 GND (power), 39 GND (power), 42 VCC (power), 45 GND (power)

## CY74FCT162841CTPVC
designator U?
20-Bit Bus Interface D-Type Latches with 3-State Outputs, DL0056A, TUBE; Generic Part Number: CY74FCT162841T; Manufacturer: Texas Instruments; PartNumber: CY74FCT162841CTPVC; VCC(Min)(V): 4.5; VCC(Max)(V): 5.5; Output Type: CMOS; ICC @ Nom Voltage(Max)(mA): 0.5; Input Type: TTL; Bits(#): 20; F @ Nom Voltage(Max)(Mhz): 70; Rating: Catalog; Technology Family: FCT; Voltage(Nom)(V): 5; Schmitt Trigger: No; Output Drive (IOL/IOH)(Max)(mA): 24/-24; DatasheetVersion: SCCS067A; PackageReference: DL0056A; Supplier 1: Digi-Key; Supplier Part Number 1: 296-33195-5-ND; Supplier 2: Farnell; Supplier Part Number 2: 1741592; Supplier 3: Mouser; Supplier Part Number 3: 595-74FCT162841CTPVC; Operating Temperature Range(C): -40 to 85; tpd @ Nom Voltage(Max)(ns): 5.5; Code_JEDEC: MO-118; ComponentLink1Description: Manufacturer URL; ComponentLink1URL: http://www.ti.com/; ComponentLink2Description: Datasheet; ComponentLink2URL: http://www.ti.com/lit/ds/symlink/cy74fct162841t.pdf; ComponentLink3Description: Package Specification; ComponentLink3URL: http://www.ti.com/lit/ml/mpds491/mpds491.pdf
footprint DL0056A_N (SOP, 56-Leads, Body 7.6x18.5mm, Pitch 0.635mm, IPC Medium Density)
footprint DL0056A_M (SOP, 56-Leads, Body 7.6x18.5mm, Pitch 0.635mm, IPC Low Density)
footprint DL0056A_L (SOP, 56-Leads, Body 7.6x18.5mm, Pitch 0.635mm, IPC High Density)
part A pins: 1 1~{OE} (in) "Output Enable Input (Active LOW)", 2 1Q1 (hiz) "Three-State Outputs", 3 1Q2 (hiz) "Three-State Outputs", 5 1Q3 (hiz) "Three-State Outputs", 6 1Q4 (hiz) "Three-State Outputs", 8 1Q5 (hiz) "Three-State Outputs", 9 1Q6 (hiz) "Three-State Outputs", 10 1Q7 (hiz) "Three-State Outputs", 12 1Q8 (hiz) "Three-State Outputs", 13 1Q9 (hiz) "Three-State Outputs", 14 1Q10 (hiz) "Three-State Outputs", 43 1D10 (in) "Data Inputs", 44 1D9 (in) "Data Inputs", 45 1D8 (in) "Data Inputs", 47 1D7 (in) "Data Inputs", 48 1D6 (in) "Data Inputs", 49 1D5 (in) "Data Inputs", 51 1D4 (in) "Data Inputs", 52 1D3 (in) "Data Inputs", 54 1D2 (in) "Data Inputs", 55 1D1 (in) "Data Inputs", 56 1LE (in) "Latch Enable Input (Active HIGH)"
part B pins: 15 2Q1 (hiz) "Three-State Outputs", 16 2Q2 (hiz) "Three-State Outputs", 17 2Q3 (hiz) "Three-State Outputs", 19 2Q4 (hiz) "Three-State Outputs", 20 2Q5 (hiz) "Three-State Outputs", 21 2Q6 (hiz) "Three-State Outputs", 23 2Q7 (hiz) "Three-State Outputs", 24 2Q8 (hiz) "Three-State Outputs", 26 2Q9 (hiz) "Three-State Outputs", 27 2Q10 (hiz) "Three-State Outputs", 28 2~{OE} (in) "Output Enable Input (Active LOW)", 29 2LE (in) "Latch Enable Input (Active HIGH)", 30 2D10 (in) "Data Inputs", 31 2D9 (in) "Data Inputs", 33 2D8 (in) "Data Inputs", 34 2D7 (in) "Data Inputs", 36 2D6 (in) "Data Inputs", 37 2D5 (in) "Data Inputs", 38 2D4 (in) "Data Inputs", 40 2D3 (in) "Data Inputs", 41 2D2 (in) "Data Inputs", 42 2D1 (in) "Data Inputs"
part C pins: 4 GND (power), 7 VCC (power), 11 GND (power), 18 GND (power), 22 VCC (power), 25 GND (power), 32 GND (power), 35 VCC (power), 39 GND (power), 46 GND (power), 50 VCC (power), 53 GND (power)

## JM38510/00204BEA
designator U?
Dual J-K Flip-Flops With Preset And Clear, J0016A, TUBE; Generic Part Number: SN5476; Manufacturer: Texas Instruments; PartNumber: JM38510/00204BEA; VCC(Min)(V): 4.5; VCC(Max)(V): 5.5; Output Type: TTL; Output: 2S; Bits(#): 2; Rating: Military; Schmitt Trigger: No; DatasheetVersion: SDLS121; PackageReference: J0016A; Input Type: TTL; Operating Temperature Range(C): -55 to 125; Technology Family: TTL; ComponentLink1Description: Manufacturer URL; ComponentLink1URL: http://www.ti.com/; ComponentLink2Description: Datasheet; ComponentLink2URL: http://www.ti.com/lit/ds/symlink/sn5476.pdf; ComponentLink3Description: Package Specification; ComponentLink3URL: http://www.ti.com/lit/ml/mcer002d/mcer002d.pdf
footprint J0016A (DIP, 16-Leads, Body 21.35x7.2mm, Pitch 2.54mm)
part A pins: 1 1CLK (in), 2 1~{PRE} (in), 3 1~{CLR} (in), 4 1J (in), 14 1Q (out), 15 1Q (out), 16 1K (in)
part B pins: 6 2CLK (in), 7 2~{PRE} (in), 8 2~{CLR} (in), 9 2J (in), 10 2Q (out), 11 2Q (out), 12 2K (in)
part C pins: 5 VCC (power), 13 GND (power)
part A text: PRE; CLR
part B text: PRE; CLR

## JM38510/05151BCA
designator U?
CMOS Dual D-Type Flip Flop, J0014A, TUBE; Generic Part Number: CD4013B-MIL; Manufacturer: Texas Instruments; PartNumber: JM38510/05151BCA; VCC(Max)(V): 18; VCC(Min)(V): 3; ICC @ Nom Voltage(Max)(mA): 0.06; Bits(#): 2; F @ Nom Voltage(Max)(Mhz): 8; Rating: Military; Technology Family: CD4000; Voltage(Nom)(V): 10; Schmitt Trigger: No; Output Drive (IOL/IOH)(Max)(mA): 1.5/-1.5; Output Logic: Inverted,Non-inverted; tpd @ Nom Voltage(Max)(ns): 130; DatasheetVersion: SCHS023D; PackageReference: J0014A; Output Type: CMOS; Input Type: CMOS; Operating Temperature Range(C): -55 to 125; 3-State Output: No; ComponentLink1Description: Manufacturer URL; ComponentLink1URL: http://www.ti.com/; ComponentLink2Description: Datasheet; ComponentLink2URL: http://www.ti.com/lit/ds/symlink/cd4013b-mil.pdf; ComponentLink3Description: Package Specification; ComponentLink3URL: http://www.ti.com/lit/ml/mcer002d/mcer002d.pdf
footprint J0014A (DIP, 14-Leads, Body 19.95x7.2mm, Pitch 2.54mm)
part A pins: 1 Q1 (out), 2 Q1 (out), 3 CLOCK1 (in), 4 RESET1 (in), 5 D1 (in), 6 SET1 (in)
part B pins: 8 SET2 (in), 9 D2 (in), 10 RESET2 (in), 11 CLOCK2 (in), 12 Q2 (out), 13 Q2 (out)
part C pins: 7 VSS (power), 14 VDD (power)

## JM38510/05754BEA
designator U?
CMOS 8-Stage Static Shift Register, J0016A, TUBE; Generic Part Number: CD4021B-MIL; Manufacturer: Texas Instruments; PartNumber: JM38510/05754BEA; Technology Family: CD4000; VCC(Min)(V): 3; VCC(Max)(V): 18; Voltage(Nom)(V): 10; F @ Nom Voltage(Max)(Mhz): 8; ICC @ Nom Voltage(Max)(mA): 0.3; tpd @ Nom Voltage(Max)(ns): 160; Output Drive (IOL/IOH)(Max)(mA): 1.5/-1.5; 3-State Output: No; Rating: Military; DatasheetVersion: SCHS024C; PackageReference: J0016A; Input Type: CMOS; Output Type: CMOS; Operating Temperature Range(C): -55 to 125; ComponentLink1Description: Manufacturer URL; ComponentLink1URL: http://www.ti.com/; ComponentLink2Description: Datasheet; ComponentLink2URL: http://www.ti.com/lit/ds/symlink/cd4021b-mil.pdf; ComponentLink3Description: Package Specification; ComponentLink3URL: http://www.ti.com/lit/ml/mcer002d/mcer002d.pdf
footprint J0016A (DIP, 16-Leads, Body 21.35x7.2mm, Pitch 2.54mm)
pins: 1 P1-8 (in), 2 Q6 (out), 3 Q8 (out), 4 PI-4 (in), 5 PI-3 (in), 6 PI-2 (in), 7 PI-1 (in), 8 VSS (power), 9 PAR/SER CTRL (in), 10 CLK (in), 11 SERIAL IN (in), 12 Q7 (out), 13 PI-5 (in), 14 PI-6 (in), 15 PI-7 (in), 16 VDD (power)

## JM38510/07101BCA
designator U?
Dual D-type Positive-Edge-Triggered Flip-Flops With Preset And C, J0014A, TUBE; Generic Part Number: SN54S74; Manufacturer: Texas Instruments; PartNumber: JM38510/07101BCA; VCC(Min)(V): 4.75; VCC(Max)(V): 5.25; Output Type: TTL; Output: 3S; ICC @ Nom Voltage(Max)(mA): 25; Bits(#): 2; F @ Nom Voltage(Max)(Mhz): 50; Rating: Military; Technology Family: S; Schmitt Trigger: No; Output Drive (IOL/IOH)(Max)(mA): 20/-1; Output Logic: Inverted,Non-inverted; DatasheetVersion: SDLS119; PackageReference: J0014A; Input Type: TTL; Operating Temperature Range(C): -55 to 125; 3-State Output: No; ComponentLink1Description: Manufacturer URL; ComponentLink1URL: http://www.ti.com/; ComponentLink2Description: Datasheet; ComponentLink2URL: http://www.ti.com/lit/ds/symlink/sn54s74.pdf; ComponentLink3Description: Package Specification; ComponentLink3URL: http://www.ti.com/lit/ml/mcer002d/mcer002d.pdf
footprint J0014A (DIP, 14-Leads, Body 19.95x7.2mm, Pitch 2.54mm)
part A pins: 1 1~{CLR} (in), 2 1D (in), 3 1CLK (in), 4 1~{PRE} (in), 5 1Q (out), 6 1Q (out)
part B pins: 8 2Q (out), 9 2Q (out), 10 2~{PRE} (in), 11 2CLK (in), 12 2D (in), 13 2~{CLR} (in)
part C pins: 7 GND (power), 14 VCC (power)
part A text: PRE; CLR
part B text: PRE; CLR

## JM38510/07101BDA
designator U?
Dual D-type Positive-Edge-Triggered Flip-Flops With Preset And C, W0014A, TUBE; Generic Part Number: SN54S74; Manufacturer: Texas Instruments; PartNumber: JM38510/07101BDA; VCC(Min)(V): 4.75; VCC(Max)(V): 5.25; Output Type: TTL; Output: 3S; ICC @ Nom Voltage(Max)(mA): 25; Bits(#): 2; F @ Nom Voltage(Max)(Mhz): 50; Rating: Military; Technology Family: S; Schmitt Trigger: No; Output Drive (IOL/IOH)(Max)(mA): 20/-1; Output Logic: Inverted,Non-inverted; DatasheetVersion: SDLS119; PackageReference: W0014A; Input Type: TTL; Operating Temperature Range(C): -55 to 125; 3-State Output: No; ComponentLink1Description: Manufacturer URL; ComponentLink1URL: http://www.ti.com/; ComponentLink2Description: Datasheet; ComponentLink2URL: http://www.ti.com/lit/ds/symlink/sn54s74.pdf; ComponentLink3Description: Package Specification; ComponentLink3URL: http://www.ti.com/lit/ml/mcfp002c/mcfp002c.pdf
footprint W0014A_N (CFP, 14-Leads, Body 9.91x6.6mm, Pitch 1.27mm, IPC Medium Density)
footprint W0014A_M (CFP, 14-Leads, Body 9.91x6.6mm, Pitch 1.27mm, IPC Low Density)
footprint W0014A_L (CFP, 14-Leads, Body 9.91x6.6mm, Pitch 1.27mm, IPC High Density)
part A pins: 1 1~{CLR} (in), 2 1D (in), 3 1CLK (in), 4 1~{PRE} (in), 5 1Q (out), 6 1Q (out)
part B pins: 8 2Q (out), 9 2Q (out), 10 2~{PRE} (in), 11 2CLK (in), 12 2D (in), 13 2~{CLR} (in)
part C pins: 7 GND (power), 14 VCC (power)
part A text: PRE; CLR
part B text: PRE; CLR

## JM38510/07102BEA
designator U?
Dual J-K Negative-Edge-Triggered Flip-Flops With Preset And Clear, J0016A, TUBE; Generic Part Number: SN54S112; Manufacturer: Texas Instruments; PartNumber: JM38510/07102BEA; Rating: Military; Technology Family: S; Schmitt Trigger: No; DatasheetVersion: SDLS011; PackageReference: J0016A; Operating Temperature Range(C): -55 to 125; ComponentLink1Description: Manufacturer URL; ComponentLink1URL: http://www.ti.com/; ComponentLink2Description: Datasheet; ComponentLink2URL: http://www.ti.com/lit/ds/symlink/sn54s112.pdf; ComponentLink3Description: Package Specification; ComponentLink3URL: http://www.ti.com/lit/ml/mcer002d/mcer002d.pdf
footprint J0016A (DIP, 16-Leads, Body 21.35x7.2mm, Pitch 2.54mm)
part A pins: 1 1CLK (in), 2 1K (in), 3 1J (in), 4 1~{PRE} (in), 5 1Q (out), 6 1Q (out), 15 1~{CLR} (in)
part B pins: 7 2Q (out), 9 2Q (out), 10 2~{PRE} (in), 11 2J (in), 12 2K (in), 13 2CLK (in), 14 2~{CLR} (in)
part C pins: 8 GND (power), 16 VCC (power)
part A text: PRE; CLR
part B text: PRE; CLR

## JM38510/07102BFA
designator U?
Dual J-K Negative-Edge-Triggered Flip-Flops With Preset And Clear, W0016A, TUBE; Generic Part Number: SN54S112; Manufacturer: Texas Instruments; PartNumber: JM38510/07102BFA; Rating: Military; Technology Family: S; Schmitt Trigger: No; DatasheetVersion: SDLS011; PackageReference: W0016A; Operating Temperature Range(C): -55 to 125; ComponentLink1Description: Manufacturer URL; ComponentLink1URL: http://www.ti.com/; ComponentLink2Description: Datasheet; ComponentLink2URL: http://www.ti.com/lit/ds/symlink/sn54s112.pdf; ComponentLink3Description: Package Specification; ComponentLink3URL: http://www.ti.com/lit/ml/mcfp004c/mcfp004c.pdf
footprint W0016A_N (CFP, 16-Leads, Body 10.92x7.24mm, Pitch 1.27mm, IPC Medium Density)
footprint W0016A_M (CFP, 16-Leads, Body 10.92x7.24mm, Pitch 1.27mm, IPC Low Density)
footprint W0016A_L (CFP, 16-Leads, Body 10.92x7.24mm, Pitch 1.27mm, IPC High Density)
part A pins: 1 1CLK (in), 2 1K (in), 3 1J (in), 4 1~{PRE} (in), 5 1Q (out), 6 1Q (out), 15 1~{CLR} (in)
part B pins: 7 2Q (out), 9 2Q (out), 10 2~{PRE} (in), 11 2J (in), 12 2K (in), 13 2CLK (in), 14 2~{CLR} (in)
part C pins: 8 GND (power), 16 VCC (power)
part A text: PRE; CLR
part B text: PRE; CLR

## JM38510/07105BEA
designator U?
Hex D-type Flip-Flops With Clear, J0016A, TUBE; Generic Part Number: SN54S174; Manufacturer: Texas Instruments; PartNumber: JM38510/07105BEA; VCC(Min)(V): 4.75; VCC(Max)(V): 5.25; Output Type: TTL; Output: 2S; ICC @ Nom Voltage(Max)(mA): 144; Bits(#): 6; F @ Nom Voltage(Max)(Mhz): 50; Rating: Military; Technology Family: S; Schmitt Trigger: No; Output Drive (IOL/IOH)(Max)(mA): 20/-1; Output Logic: Inverted,Non-inverted; tpd @ Nom Voltage(Max)(ns): 17; DatasheetVersion: SDLS068A; PackageReference: J0016A; Input Type: TTL; Operating Temperature Range(C): -55 to 125; 3-State Output: No; ComponentLink1Description: Manufacturer URL; ComponentLink1URL: http://www.ti.com/; ComponentLink2Description: Datasheet; ComponentLink2URL: http://www.ti.com/lit/ds/symlink/sn54s174.pdf; ComponentLink3Description: Package Specification; ComponentLink3URL: http://www.ti.com/lit/ml/mcer002d/mcer002d.pdf
footprint J0016A (DIP, 16-Leads, Body 21.35x7.2mm, Pitch 2.54mm)
part A pins: 1 CLR (in), 2 1Q (out), 3 1D (in), 4 2D (in), 5 2Q (out), 6 3D (in), 7 3Q (out), 9 CLK (in), 10 4Q (out), 11 4D (in), 12 5Q (out), 13 5D (in), 14 6D (in), 15 6Q (out)
part B pins: 8 GND (power), 16 VCC (power)

## JM38510/07105BFA
designator U?
Hex D-type Flip-Flops With Clear, W0016A, TUBE; Generic Part Number: SN54S174; Manufacturer: Texas Instruments; PartNumber: JM38510/07105BFA; VCC(Min)(V): 4.75; VCC(Max)(V): 5.25; Output Type: TTL; Output: 2S; ICC @ Nom Voltage(Max)(mA): 144; Bits(#): 6; F @ Nom Voltage(Max)(Mhz): 50; Rating: Military; Technology Family: S; Schmitt Trigger: No; Output Drive (IOL/IOH)(Max)(mA): 20/-1; Output Logic: Inverted,Non-inverted; tpd @ Nom Voltage(Max)(ns): 17; DatasheetVersion: SDLS068A; PackageReference: W0016A; Input Type: TTL; Operating Temperature Range(C): -55 to 125; 3-State Output: No; ComponentLink1Description: Manufacturer URL; ComponentLink1URL: http://www.ti.com/; ComponentLink2Description: Datasheet; ComponentLink2URL: http://www.ti.com/lit/ds/symlink/sn54s174.pdf; ComponentLink3Description: Package Specification; ComponentLink3URL: http://www.ti.com/lit/ml/mcfp004c/mcfp004c.pdf
footprint W0016A_N (CFP, 16-Leads, Body 10.92x7.24mm, Pitch 1.27mm, IPC Medium Density)
footprint W0016A_M (CFP, 16-Leads, Body 10.92x7.24mm, Pitch 1.27mm, IPC Low Density)
footprint W0016A_L (CFP, 16-Leads, Body 10.92x7.24mm, Pitch 1.27mm, IPC High Density)
part A pins: 1 CLR (in), 2 1Q (out), 3 1D (in), 4 2D (in), 5 2Q (out), 6 3D (in), 7 3Q (out), 9 CLK (in), 10 4Q (out), 11 4D (in), 12 5Q (out), 13 5D (in), 14 6D (in), 15 6Q (out)
part B pins: 8 GND (power), 16 VCC (power)

## JM38510/07106BEA
designator U?
Quadruple D-type Flip-Flops With Clear, J0016A, TUBE; Generic Part Number: SN54S175; Manufacturer: Texas Instruments; PartNumber: JM38510/07106BEA; VCC(Min)(V): 4.75; VCC(Max)(V): 5.25; Output Type: TTL; Output: 2S; ICC @ Nom Voltage(Max)(mA): 96; Bits(#): 4; F @ Nom Voltage(Max)(Mhz): 50; Rating: Military; Technology Family: S; Schmitt Trigger: No; Output Drive (IOL/IOH)(Max)(mA): 20/-1; Output Logic: Inverted,Non-inverted; tpd @ Nom Voltage(Max)(ns): 17; DatasheetVersion: SDLS068A; PackageReference: J0016A; Input Type: TTL; Operating Temperature Range(C): -55 to 125; 3-State Output: No; ComponentLink1Description: Manufacturer URL; ComponentLink1URL: http://www.ti.com/; ComponentLink2Description: Datasheet; ComponentLink2URL: http://www.ti.com/lit/ds/symlink/sn54s175.pdf; ComponentLink3Description: Package Specification; ComponentLink3URL: http://www.ti.com/lit/ml/mcer002d/mcer002d.pdf
footprint J0016A (DIP, 16-Leads, Body 21.35x7.2mm, Pitch 2.54mm)
part A pins: 1 CLR (in), 2 1Q (out), 3 1Q (out), 4 1D (in), 5 2D (in), 6 2Q (out), 7 2Q (out), 9 CLK (in), 10 3Q (out), 11 3Q (out), 12 3D (in), 13 4D (in), 14 4Q (out), 15 4Q (out)
part B pins: 8 GND (power), 16 VCC (power)

## JM38510/07601BEA
designator U?
4-Bit Bidirectional Universal Shift Registers, J0016A, TUBE; Generic Part Number: SN54S194; Manufacturer: Texas Instruments; PartNumber: JM38510/07601BEA; Technology Family: S; VCC(Min)(V): 4.5; VCC(Max)(V): 5.5; Output Type: TTL; Rating: Military; DatasheetVersion: SDLS075; PackageReference: J0016A; Operating Temperature Range(C): -55 to 125; ComponentLink1Description: Manufacturer URL; ComponentLink1URL: http://www.ti.com/; ComponentLink2Description: Datasheet; ComponentLink2URL: http://www.ti.com/lit/ds/symlink/sn54s194.pdf; ComponentLink3Description: Package Specification; ComponentLink3URL: http://www.ti.com/lit/ml/mcer002d/mcer002d.pdf
footprint J0016A (DIP, 16-Leads, Body 21.35x7.2mm, Pitch 2.54mm)
pins: 1 ~{CLR} (in), 2 SR SER (in), 3 A (in), 4 B (in), 5 C (in), 6 D (in), 7 SL SER (in), 8 GND (power), 9 S0 (in), 10 S1 (in), 11 CLK (in), 12 QD (out), 13 QC (out), 14 QB (out), 15 QA (out), 16 VCC (power)

## JM38510/07601BFA
designator U?
4-Bit Bidirectional Universal Shift Registers, W0016A, TUBE; Generic Part Number: SN54S194; Manufacturer: Texas Instruments; PartNumber: JM38510/07601BFA; Technology Family: S; VCC(Min)(V): 4.5; VCC(Max)(V): 5.5; Output Type: TTL; Rating: Military; DatasheetVersion: SDLS075; PackageReference: W0016A; Operating Temperature Range(C): -55 to 125; Bits: --; ComponentLink1Description: Manufacturer URL; ComponentLink1URL: http://www.ti.com/; ComponentLink2Description: Datasheet; ComponentLink2URL: http://www.ti.com/lit/ds/symlink/sn54s194.pdf; ComponentLink3Description: Package Specification; ComponentLink3URL: http://www.ti.com/lit/ml/mcfp004c/mcfp004c.pdf
footprint W0016A_N (CFP, 16-Leads, Body 10.92x7.24mm, Pitch 1.27mm, IPC Medium Density)
footprint W0016A_M (CFP, 16-Leads, Body 10.92x7.24mm, Pitch 1.27mm, IPC Low Density)
footprint W0016A_L (CFP, 16-Leads, Body 10.92x7.24mm, Pitch 1.27mm, IPC High Density)
pins: 1 ~{CLR} (in), 2 SR SER (in), 3 A (in), 4 B (in), 5 C (in), 6 D (in), 7 SL SER (in), 8 GND (power), 9 S0 (in), 10 S1 (in), 11 CLK (in), 12 QD (out), 13 QC (out), 14 QB (out), 15 QA (out), 16 VCC (power)